# Altium schematic symbol library PONTO DE TESTE.SchLib: 1 symbol
Pins are listed as number, name and electrical type; pins without a type are passive.

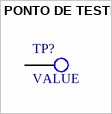
[diagram p0: symbol PONTO DE TESTE]

## PONTO DE TESTE
designator TP?, comment VALUE
PONTO DE TESTE; PART NUMBER: PARTNUMBER; VALUE: VALUE
footprint TP_0.6_TH (PONTO DE TESTE DE 0.6mm)
footprint TP_0.8_TH (PONTO DE TESTE DE 0.8mm)
footprint TP_1.0_TH (PONTO DE TESTE DE 1.0mm)
pins: 1